# Altium footprint library EN3P6FRAPC.PcbLib: 1 footprints
Each footprint in its own frame and in the unit in brackets; x right, y up, seen from the top. Pads: shape width x height; smd on the part's side, far side on the other; paste and mask are expansions set on the pad; w line width, h text height; cw(c..) or ccw(c..) is an arc to the next point about the centre after c.
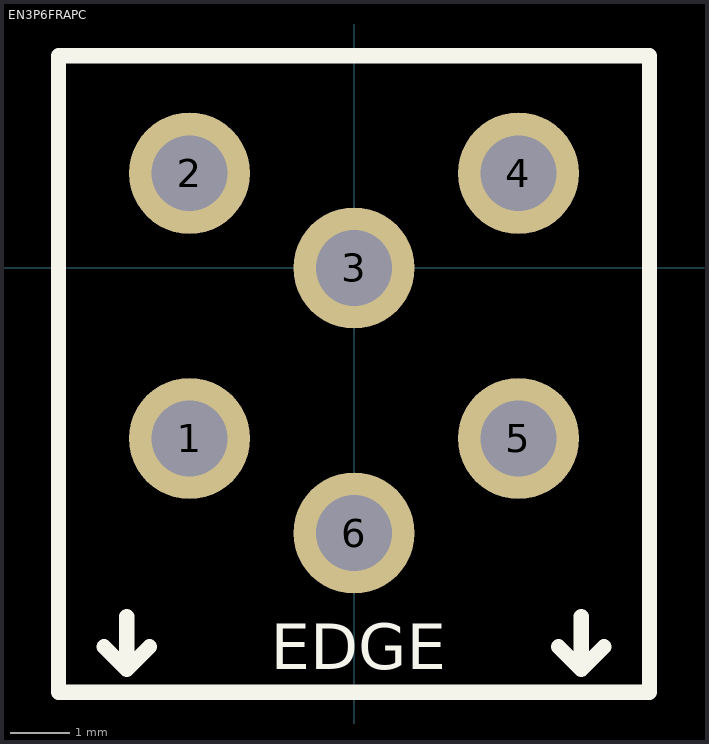
[diagram p0: the footprint, top view; thin cyan lines are the x and y axes]

## EN3P6FRAPC [mil]
pads (6):
  round 80 hole 50: 1(-108.5,-112.5) 2(-108.5,62.5) 3(0,0) 4(108.5,62.5) 5(108.5,-112.5) 6(0,-175)
Top Overlay:
  lines w10: -165,-250 -150,-265 ; -150,-230 -150,-265 ; -135,-250 -150,-265 ; 135,-250 150,-265 ; 150,-230 150,-265 ; 165,-250 150,-265 ; -195,-280 195,-280 195,140 -195,140 -195,-280
  text "EDGE" at -55,-265 h30